# Altium integrated library inductors.IntLib: 83 symbols
Pins are listed as number, name and electrical type; pins without a type are passive.

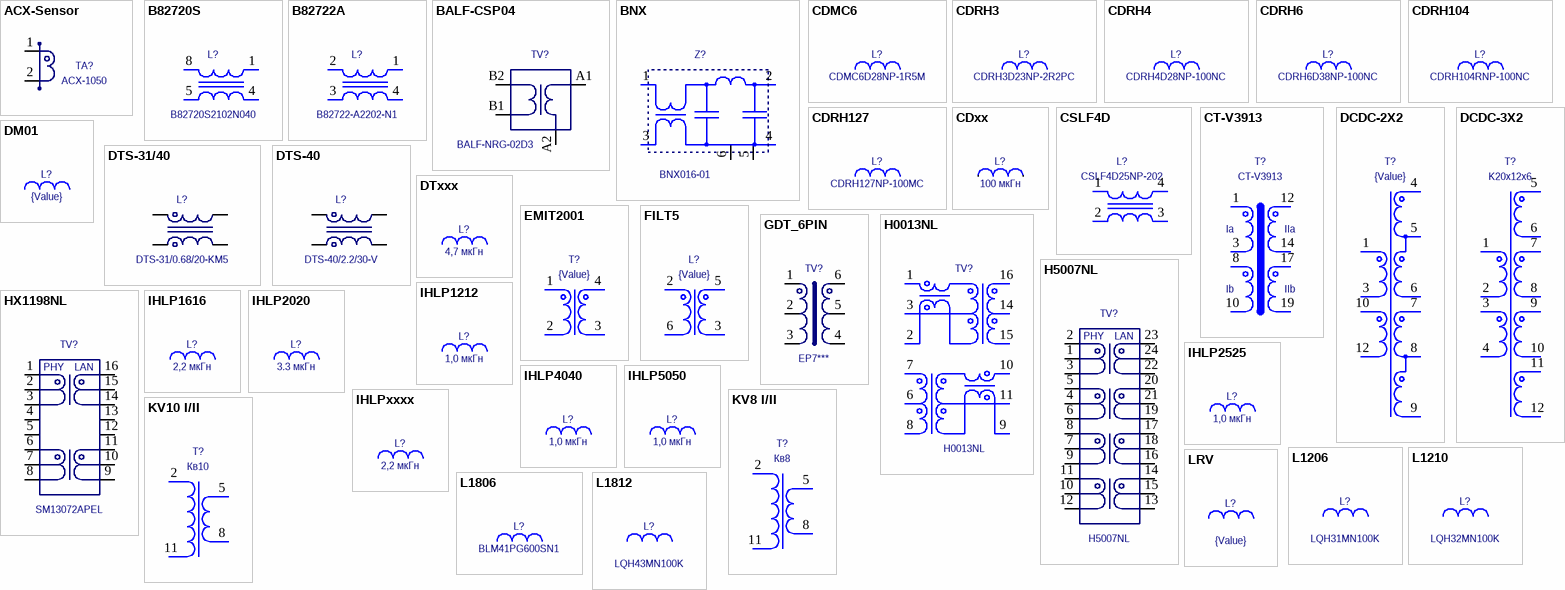
[diagram p0: symbols ACX-Sensor to LRV]

## ACX-Sensor
designator TA?, comment ACX-1050
2500W; Value: ACX-1050
footprint ACX-1050 (Current transformer)
pins: 1 RT, 2 RT

## B82720S
designator L?, comment B82720S2102N040
CM filter; Value: B82720S2102N040
footprint B82720S
pins: 1 1A, 4 2A, 5 2B, 8 1B

## B82722A
designator L?, comment B82722-A2202-N1
CM filter; Value: B82722-A2202-N1
footprint B82722A
pins: 1 1A, 2 1B, 3 2B, 4 2A

## BALF-CSP04
designator TV?, comment BALF-NRG-02D3
Balun; Value: BALF-NRG-02D3
footprint CSP04
footprint CSP05
pins: A1 SE, A2 GND, B1 DIFF0, B2 DIFF1

## BNX
designator Z?, comment BNX016-01
BNX; Value: BNX016-01
footprint BNX
pins: 1 B, 2 CB, 3 PSG, 4 CG, 5, 6

## CDMC6
designator L?  value CDMC6D28NP-1R5M  (hidden comment: CDMC6)
footprint CDMC6
pins: 1, 2

## CDRH3
designator L?  value CDRH3D23NP-2R2PC  (hidden comment: CDRH3)
footprint CDRH3
pins: 1, 2

## CDRH4
designator L?  value CDRH4D28NP-100NC  (hidden comment: CDRH4)
footprint CDRH4
pins: 1, 2

## CDRH6
designator L?  value CDRH6D38NP-100NC  (hidden comment: CDRH6)
footprint CDRH6
pins: 1, 2

## CDRH104
designator L?  value CDRH104RNP-100NC  (hidden comment: CDRH104)
footprint CDRH104
pins: 1, 2

## CDRH127
designator L?  value CDRH127NP-100MC  (hidden comment: CDRH127)
footprint CDRH127
pins: 1, 2

## CDxx
designator L?, comment 100 мкГн
Unshielded power inductor; PartNumber: CD54NP-101KC; Value: 100 мкГн
footprint CD43 (Unshielded d4.5mm)
footprint CD54 (Unshielded d5.8mm)
footprint CD75 (Unshielded d7.8mm)
footprint CD105 (Unshielded d10mm)
pins: 1, 1A, 2, 2A

## CSLF4D
designator L?  value CSLF4D25NP-202  (hidden comment: CSLF4D)
footprint CSLF4D
pins: 1 1B, 2 2B, 3 2A, 4 1A

## CT-V3913
designator T?
Value: CT-V3913
footprint CTC
pins: 1 1A, 2 hidden, 3 1B, 4 hidden, 5 hidden, 6 hidden, 7 hidden, 8 2A, 9 hidden, 10 2B, 11 hidden, 12 3A, 13 hidden, 14 3B, 15 hidden, 16 hidden, 17 4A, 18 hidden, 19 4B, 20 hidden, 21 hidden, 22 hidden, 23 hidden, 24 hidden
text: Ia; IIa; Ib; IIb

## DCDC-2X2
designator T?  value {Value}  (hidden comment: DCDC-2X2)
footprint KV8
pins: 1 1A, 2 hidden, 3 1B, 4 2A, 5 2B, 6 2C, 7 3A, 8 3B, 9 3C, 10 4A, 11 hidden, 12 4B, 13 hidden, 14 hidden

## DCDC-3X2
designator T?  value K20x12x6  (hidden comment: DCDC-3X2)
footprint K20-12-3X2
pins: 1 1A, 2 1B, 3 2A, 4 2B, 5 3A, 6 3B, 7 4A, 8 4B, 9 5A, 10 5B, 11 6A, 12 6B

## DM01
designator L?  value {Value}  (hidden comment: DM01)
footprint A15
pins: 1, 2

## DTS-31/40
designator L?, comment DTS-31/0.68/20-KM5
Common mode choke; Value: DTS-31/0.68/20-KM5
footprint DTS-31-V/KM (Common mode choke)
footprint DTS-40-V/BV (Common mode choke)
pins: KM1 1A, KM2 2A, KM3 2B, KM4 1B, V1 1A, V2 2A, V3 2B, V4 1B

## DTS-40
designator L?, comment DTS-40/2.2/30-V
Common mode choke; Value: DTS-40/2.2/30-V
footprint DTS-40-V-40A (Common mode choke)
footprint DTS-40-V-20A (Common mode choke)
pins: V1 1A, V2 2A, V3 2B, V4 1B

## DTxxx
designator L?, comment 4,7 мкГн
Toroid core inductor; Value: 4,7 мкГн; PartNumber: *
footprint DT130-2 (Toroid core 26.9mm, 2mm hole)
footprint DT106-2 (Toroid core 26.9mm, 2mm hole)
footprint DTMSS-40-20A (Toroid core 40mm, 3.2mm hole)
footprint DTMSS-40-45A (Toroid core 40mm, 4.4mm hole)
footprint DTMSS-16-8A (Toroid core 16mm, 1.8mm hole)
footprint DTMSS-16-20A (Toroid core 16mm, 3.2mm hole)
footprint DTMSS-27-15A (Toroid core 27mm, 2.4mm hole)
footprint DTMSS-27-30A (Toroid core 27mm, 3.2mm hole)
pins: 1, 2

## EMIT2001
designator T?  value {Value}  (hidden comment: EMIT2001)
footprint EMIT2001
pins: 1, 2, 3 4, 4 3

## FILT5
designator L?  value {Value}  (hidden comment: FILT5)
footprint KV5
pins: 1 hidden, 2 1, 3 4, 4 hidden, 5 3, 6 2, 7 hidden, 8 hidden

## GDT_6PIN
designator TV?, comment EP7***
GDT; Value: EP7***
footprint EP7 SMD6
footprint EP7 SMD6 MIRROR
footprint VPT85
pins: 1 1A, 2 1C, 3 1B, 4 2B, 5 2C, 6 2A

## H0013NL
designator TV?
LAN transformer 100/10; Value: H0013NL
footprint TR-SO16-1
pins: 1 RD+, 2 RD-, 3 RDC, 4 hidden, 5 hidden, 6 TDC, 7 TD+, 8 TD-, 9 TX-, 10 TX+, 11 TXC, 12 hidden, 13 hidden, 14 RXC, 15 RX-, 16 RX+

## H5007NL
designator TV?
LAN transformer 1000; Value: H5007NL
footprint TR-SO24
pins: 1 C, 2 C, 3 C, 4 C, 5 C, 6 C, 7 C, 8 C, 9 C, 10 C, 11 C, 12 C, 13 C, 14 C, 15 C, 16 C, 17 C, 18 C, 19 C, 20 C, 21 C, 22 C, 23 C, 24 C
text: PHY; LAN

## HX1198NL
designator TV?, comment SM13072APEL
LAN transformer 100/10; Value: SM13072APEL
footprint TR-SO16-2
pins: 1 C, 2 C, 3 C, 4 C, 5 C, 6 C, 7 C, 8 C, 9 C, 10 C, 11 C, 12 C, 13 C, 14 C, 15 C, 16 C
text: PHY; LAN

## IHLP1212
designator L?, comment 1,0 мкГн
3mm sq.inductor; PartNumber: IHLP1212BZER1R0M11; Value: 1,0 мкГн
footprint IHLP1212
pins: 1, 2

## IHLP1616
designator L?, comment 2,2 мкГн
4mm sq.inductor; PartNumber: IHLP1616BZER2R2M01; Value: 2,2 мкГн
footprint IHLP1616
pins: 1, 2

## IHLP2020
designator L?, comment 3.3 мкГн
5.2mm sq.inductor; PartNumber: IHLP2020; Value: 3.3 мкГн
footprint IHLP2020
pins: 1, 2

## IHLP2525
designator L?, comment 1,0 мкГн
6.5mm sq.inductor; PartNumber: IHLP2525CZER1R0M01; Value: 1,0 мкГн
footprint IHLP2525
pins: 1, 2

## IHLP4040
designator L?, comment 1,0 мкГн
10mm sq.inductor; PartNumber: IHLP4040DZER1R0M01; Value: 1,0 мкГн
footprint IHLP4040
pins: 1, 2

## IHLP5050
designator L?, comment 1,0 мкГн
12mm sq.inductor; PartNumber: IHLP5050EZER1R0M01; Value: 1,0 мкГн
footprint IHLP5050
pins: 1, 2

## IHLPxxxx
designator L?, comment 2,2 мкГн
Square power inductor; PartNumber: IHLP1616BZER2R2M01; Value: 2,2 мкГн
footprint IHLP1616 (0420)
footprint IHLP2020 (0530)
footprint IHLP2525 (0630)
footprint IHLP4040 (1040)
footprint IHLP5050
footprint IHLP1212
pins: 1, 2

## KV8 I/II
designator T?  value Кв8  (hidden comment: KV8 I/II)
footprint KV8
pins: 1 hidden, 2 1, 3 hidden, 4 hidden, 5 2, 6 hidden, 7 hidden, 8 2, 9 hidden, 10 hidden, 11 1, 12 hidden

## KV10 I/II
designator T?  value Кв10  (hidden comment: KV10 I/II)
footprint KV10
pins: 1 hidden, 2 1, 3 hidden, 4 hidden, 5 2, 6 hidden, 7 hidden, 8 2, 9 hidden, 10 hidden, 11 1, 12 hidden

## L1206
designator L?, comment LQH31MN100K
LQH31; Value: LQH31MN100K
footprint L1206 (LQH31)
pins: 1, 2

## L1210
designator L?, comment LQH32MN100K
LQH32; Value: LQH32MN100K
footprint L1210 (LQH32)
pins: 1, 2

## L1806
designator L?  value BLM41PG600SN1  (hidden comment: L1806)
footprint 1806
pins: 1, 2

## L1812
designator L?, comment LQH43MN100K
LQH43; Value: LQH43MN100K
footprint L1812 (LQH43)
pins: 1, 2

## LRV
designator L?, comment {Value}
LRV; Value: {Value}
footprint CDRH127
footprint CDRH4
footprint CDRH3
footprint CDRH104
footprint CDRH6
footprint CDMC6
pins: 1, 2

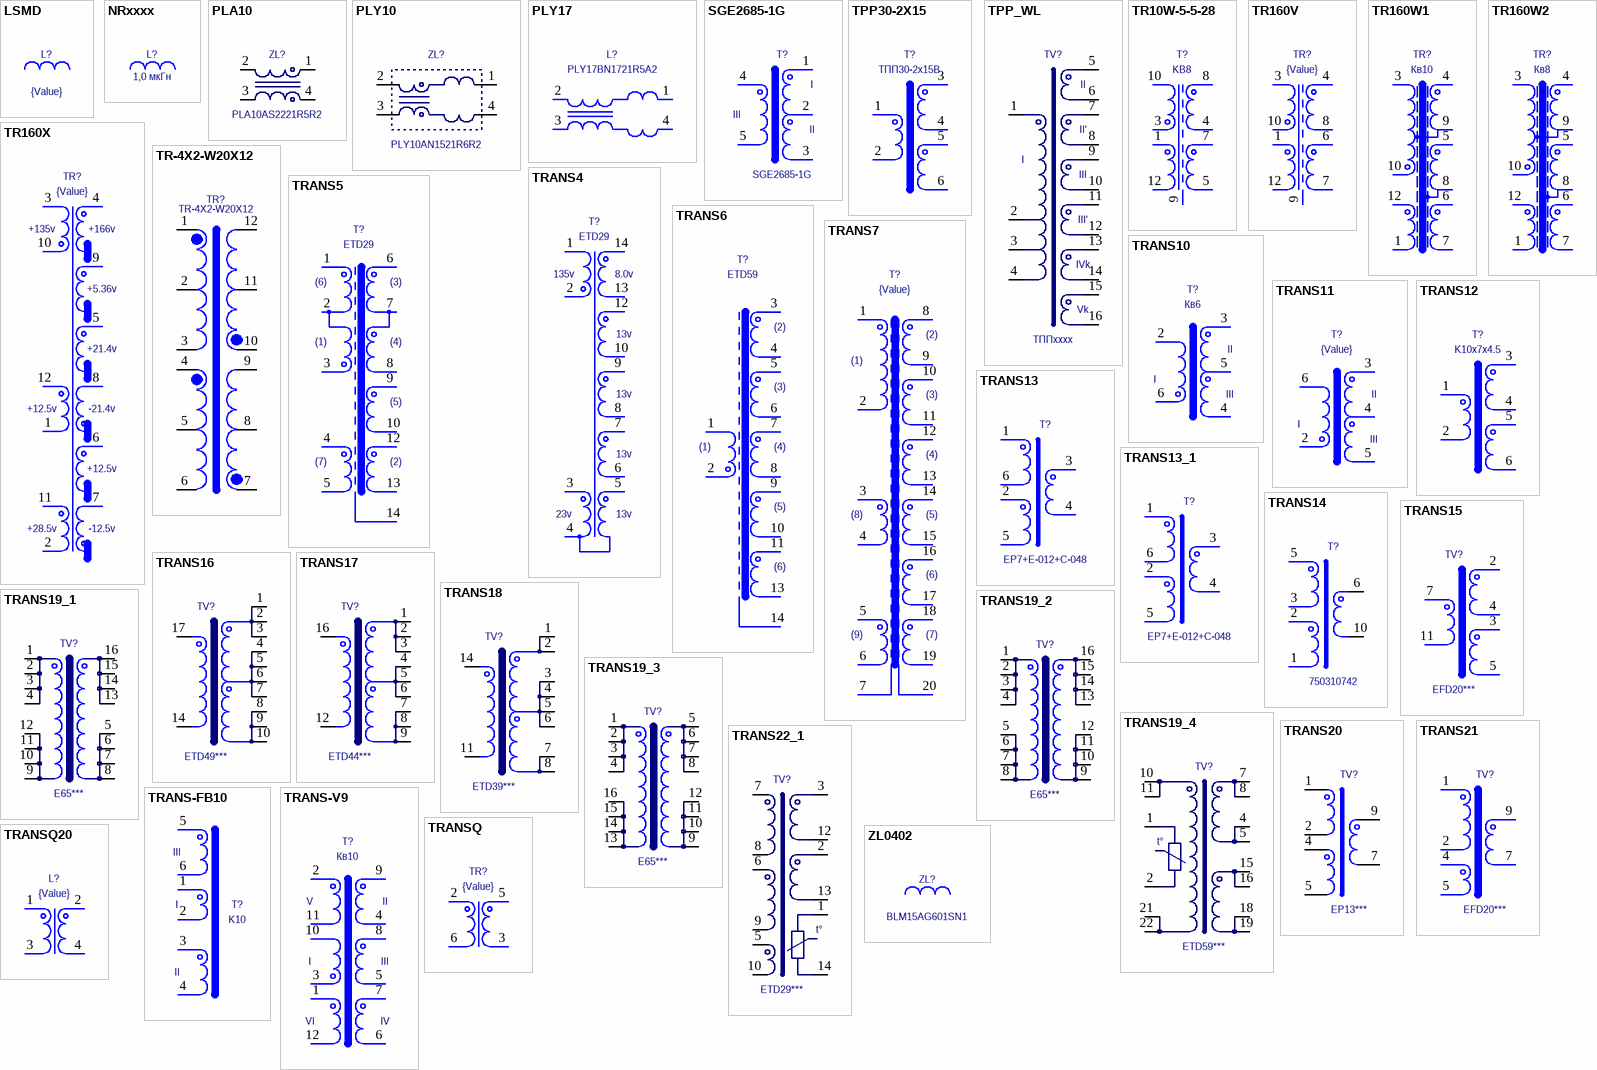
[diagram p1: symbols LSMD to ZL0402]

## LSMD
designator L?, comment {Value}
LSMD; Value: {Value}
footprint Z1206
footprint Z0805
footprint Z0603
footprint Z0402
footprint L1206 (LQH31)
footprint L1210 (LQH32)
footprint L1008
footprint L1812 (LQH43)
pins: 1, 2

## NRxxxx
designator L?, comment 1,0 мкГн
Unshielded power inductor; PartNumber: NR3015-1R0; Value: 1,0 мкГн
footprint NR2520 (2.5x2 mm unshielded inductor)
footprint NR3015 (3x3 mm unshielded inductor)
footprint NR4030 (4x4 mm unshielded inductor)
pins: 1, 2

## PLA10
designator ZL?, comment PLA10AS2221R5R2
PLA10; Value: PLA10AS2221R5R2
footprint UU9.8
footprint UU10.5
footprint ACM2012
footprint ACM4520
footprint ACM7060
pins: 1 1A, 2 1B, 3 2B, 4 2A

## PLY10
designator ZL?, comment PLY10AN1521R6R2
PLY10; Value: PLY10AN1521R6R2
footprint UU10.5
footprint UU9.8
pins: 1 1A, 2 1B, 3 2B, 4 2A

## PLY17
designator L?  value PLY17BN1721R5A2  (hidden comment: PLY17)
footprint PLY17
pins: 1 1A, 2 1B, 3 2B, 4 2A

## SGE2685-1G
designator T?
CCFL; Value: SGE2685-1G
footprint SGE2685-1G
pins: 1 1A, 2 1COM, 3 1B, 4 2A, 5 2B
text: I; III; II

## TPP30-2X15
designator T?  value ТПП30-2х15В  (hidden comment: TPP30-2X15)
footprint TPP30
pins: 1 1A, 2 1B, 3 2A, 4 2B, 5 3A, 6 3B

## TPP_WL
designator TV?, comment ТППхххх
Transformer ТПП ШЛ; Value: ТППхххх
pins: 1 PRI, 2 PRI, 3 PRI, 4 PRI, 5 1C, 6 1C, 7 1C, 8 1C, 9 1C, 10 1C, 11 1C, 12 1C, 13 1C, 14 1C, 15 1C, 16 1C
text: II; II'; I; III; III'; IVk; Vk

## TR10W-5-5-28
designator T?  value KB8  (hidden comment: TR10W-5-5-28)
footprint KV8
pins: 1 4A, 2 hidden, 3 1A, 4 2B, 5 3B, 6 hidden, 7 3A, 8 2A, 9 E1, 10 1B, 11 hidden, 12 4B, 13 hidden, 14 hidden

## TR160V
designator TR?  value {Value}  (hidden comment: TR160V)
footprint KV10
pins: 1 3A, 2 hidden, 3 1B, 4 2A, 5 hidden, 6 4A, 7 4B, 8 2B, 9 E, 10 1A, 11 hidden, 12 3B, 13 hidden, 14 hidden

## TR160W1
designator TR?  value Кв10  (hidden comment: TR160W1)
footprint KV10
pins: 1 5B, 2 hidden, 3 1B, 4 2A, 5 3A, 6 4A, 7 4B, 8 3B, 9 2B, 10 1A, 11 hidden, 12 5A, 13 hidden, 14 hidden

## TR160W2
designator TR?  value Кв8  (hidden comment: TR160W2)
footprint KV8
pins: 1 5B, 2 hidden, 3 1B, 4 2A, 5 3A, 6 4A, 7 4B, 8 3B, 9 2B, 10 1A, 11 hidden, 12 5A, 13 hidden, 14 hidden

## TR160X
designator TR?  value {Value}  (hidden comment: TR160X)
footprint KV14
pins: 1 9B, 2 8B, 3 1B, 4 2A, 5 4A, 6 6A, 7 7B, 8 5B, 9 3A, 10 1A, 11 8A, 12 9A
text: +135v; +166v; +5.36v; +21.4v; +12.5v; -21.4v; +28.5v; -12.5v

## TR-4X2-W20X12
designator TR?
Value: *
footprint TR-W20X12
pins: 1, 2, 3, 4, 5, 6, 7, 8, 9, 10, 11, 12

## TRANS4
designator T?  value ETD29  (hidden comment: TRANS4)
footprint ETD29
pins: 1 1B, 2 1A, 3 7A, 4 7B, 5 6A, 6 5B, 7 5A, 8 4B, 9 4A, 10 3B, 12 3A, 13 2B, 14 2A
text: 135v; 8.0v; 13v; 23v

## TRANS5
designator T?  value ETD29  (hidden comment: TRANS5)
footprint ETD29
pins: 1 6A, 2 1B, 3 1A, 4 7A, 5 7B, 6 3A, 7 3B, 8 4B, 9 5A, 10 5B, 12 2A, 13 2B, 14 SH
text: (6); (3); (1); (4); (5); (7); (2)

## TRANS6
designator T?  value ETD59  (hidden comment: TRANS6)
footprint ETD59
pins: 1 1B, 2 1A, 3 2A, 4 2B, 5 3A, 6 3B, 7 4A, 8 4B, 9 5A, 10 5B, 11 6A, 12 hidden, 13 6B, 14 SH, 15 hidden, 16 hidden, 17 hidden, 18 hidden, 19 hidden, 20 hidden, 21 hidden, 22 hidden, 23 hidden, 24 hidden
text: (2); (3); (1); (4); (5); (6)

## TRANS7
designator T?  value {Value}  (hidden comment: TRANS7)
footprint ETD49
pins: 1 1A, 2 1B, 3 1A, 4 1B, 5 1A, 6 1B, 7 SH1, 8 2A, 9 2B, 10 3A, 11 3B, 12 4A, 13 4B, 14 5A, 15 5B, 16 6A, 17 6B, 18 7A, 19 7B, 20 SH2
text: (2); (1); (3); (4); (8); (5); (6); (9); (7)

## TRANS10
designator T?  value Кв6  (hidden comment: TRANS10)
footprint KV6
pins: 1 hidden, 2 1B, 3 2A, 4 3B, 5 COM, 6 1A, 7 hidden, 8 hidden
text: II; I; III

## TRANS11
designator T?  value {Value}  (hidden comment: TRANS11)
footprint KV5
pins: 1 hidden, 2 1A, 3 2A, 4 COM, 5 3B, 6 1B, 7 hidden, 8 hidden
text: II; I; III

## TRANS12
designator T?  value K10x7x4.5  (hidden comment: TRANS12)
footprint K10X7-3
pins: 1 1A, 2 1B, 3 2A, 4 2B, 5 3A, 6 3B

## TRANS13
designator T?, comment EP7+E-012+C-048
TRANS13; Value: EP7+E-012+C-048
footprint EP7 SMD6 MIRROR
pins: 1 1A, 2 1B, 3 2A, 4 2B, 5 3A, 6 3B

## TRANS13_1
designator T?, comment EP7+E-012+C-048
TRANS13; Value: EP7+E-012+C-048
footprint EP7 SMD6
pins: 1 1A, 2 1B, 3 2A, 4 2B, 5 3A, 6 3B

## TRANS14
designator T?, comment 750310742
PoE EP13; Value: 750310742
footprint EP13 SMD10 MIRROR
pins: 1 3B, 2 3A, 3 1B, 5 1A, 6 2A, 7 2A, 9 2B, 10 2B

## TRANS15
designator TV?, comment EFD20***
HV trans; Value: EFD20***
footprint EFD20-HV
pins: 2 2A, 3 3A, 4 2B, 5 3B, 7 1A, 11 1B

## TRANS16
designator TV?, comment ETD49***
300W; Value: ETD49***
footprint ETD49
pins: 1 2A, 2 2A, 3 2A, 4 2MID, 5 2MID, 6 2MID, 7 2MID, 8 2B, 9 2B, 10 2B, 14 1B, 17 1A

## TRANS17
designator TV?, comment ETD44***
300W; Value: ETD44***
footprint ETD44
pins: 1 2A, 2 2A, 3 2A, 4 2MID, 5 2MID, 6 2MID, 7 2MID, 8 2B, 9 2B, 12 1B, 16 1A

## TRANS18
designator TV?, comment ETD39***
300W; Value: ETD39***
footprint ETD39
pins: 1 2A, 2 2A, 3 2A, 4 2MID, 5 2MID, 6 2MID, 7 2MID, 8 2B, 11 1B, 14 1A

## TRANS19_1
designator TV?, comment E65***
1700W; Value: E65***
footprint E65
pins: 1 2A, 2 2A, 3 2A, 4 2MID, 5 2MID, 6 2MID, 7 2MID, 8 2B, 9 2B, 10 2B, 11 2B, 12 2B, 13 2B, 14 2B, 15 2B, 16 2B

## TRANS19_2
designator TV?, comment E65***
1700W; Value: E65***
footprint E65
pins: 1 2A, 2 2A, 3 2A, 4 2MID, 5 2MID, 6 2MID, 7 2MID, 8 2B, 9 2B, 10 2B, 11 2B, 12 2B, 13 2B, 14 2B, 15 2B, 16 2B

## TRANS19_3
designator TV?, comment E65***
1700W; Value: E65***
footprint E65
pins: 1 2A, 2 2A, 3 2A, 4 2MID, 5 2MID, 6 2MID, 7 2MID, 8 2B, 9 2B, 10 2B, 11 2B, 12 2B, 13 2B, 14 2B, 15 2B, 16 2B

## TRANS19_4
designator TV?, comment ETD59***
2500W; Value: ETD59***
footprint ETD59
pins: 1 RT, 2 RT, 4 2B, 5 2B, 7 2A, 8 2A, 10 1A, 11 1A, 15 3B, 16 3B, 18 3A, 19 3A, 21 1B, 22 1B
text: t°

## TRANS20
designator TV?, comment EP13***
~GDT; Value: EP13***
footprint EP13 SMD10
footprint EP13 SMD10 MIRROR
pins: 1 1A, 2 1B, 4 3A, 5 3B, 7 2B, 9 2A

## TRANS21
designator TV?, comment EFD20***
ACDC EFD20; Value: EFD20***
footprint EFD20-SMD10
pins: 1 1A, 2 1B, 4 2A, 5 2B, 7 3B, 9 3A

## TRANS22_1
designator TV?, comment ETD29***
70W push-pull; Value: ETD29***
footprint ETD29
pins: 1 RT, 2 2C, 3 2A, 5 1C, 6 1C, 7 1A, 8 1B, 9 1D, 10 1C, 12 2B, 13 2D, 14 RT
text: t°

## TRANS-FB10
designator T?  value K10  (hidden comment: TRANS-FB10)
footprint K10-3
pins: 1 1A, 2 1B, 3 2A, 4 2B, 5 3A, 6 3B
text: III; I; II

## TRANS-V9
designator T?  value Кв10  (hidden comment: TRANS-V9)
footprint KV10
pins: 1 6A, 2 5A, 3 1A, 4 2B, 5 3B, 6 4B, 7 4A, 8 3A, 9 2A, 10 1B, 11 5B, 12 6B, 13 hidden, 14 hidden
text: V; II; I; III; VI; IV

## TRANSQ
designator TR?  value {Value}  (hidden comment: TRANSQ)
footprint KV6
pins: 1 hidden, 2 1A, 3 2B, 4 hidden, 5 2A, 6 1B, 7 hidden, 8 hidden

## TRANSQ20
designator L?  value {Value}  (hidden comment: TRANSQ20)
footprint SPH20
pins: 1 1A, 2 2A, 3 1B, 4 2B

## ZL0402
designator ZL?, comment BLM15AG601SN1
BLM15; Value: BLM15AG601SN1
footprint Z0402
pins: 1, 2

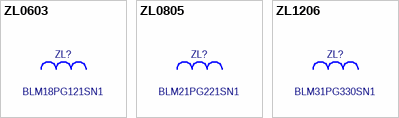
[diagram p2: symbols ZL0603 to ZL1206]

## ZL0603
designator ZL?, comment BLM18PG121SN1
BLM18; Value: BLM18PG121SN1
footprint Z0603
pins: 1, 2

## ZL0805
designator ZL?, comment BLM21PG221SN1
BLM21; Value: BLM21PG221SN1
footprint Z0805
pins: 1, 2

## ZL1206
designator ZL?, comment BLM31PG330SN1
L1206; Value: BLM31PG330SN1
footprint Z1206
pins: 1, 2